# Altium integrated library WS-DITV 2.54 mm small compact THT Dip Switch with top tape.IntLib: 11 symbols
Pins are listed as number, name and electrical type; pins without a type are passive.

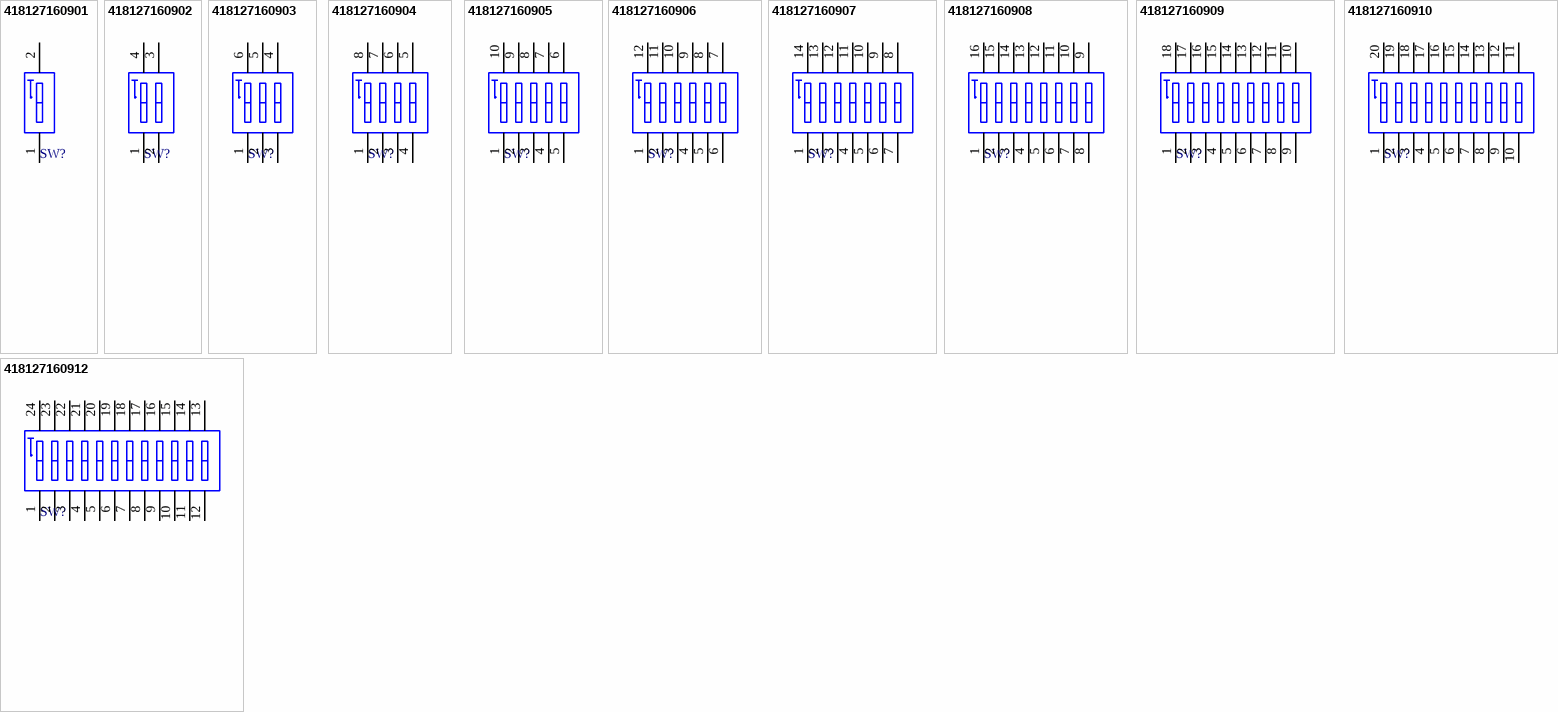
[diagram p0: symbols 418127160901 to 418127160912]

## 418127160901
designator SW?
WS-DITV 2.54 mm small compact THT Dip Switch with top tape; PartNumber: 418127160901; NoPins: 2; PackageReference: 418127160901; ComponentLink1Description: Manufacturer URL; ComponentLink1URL: http://www.we-online.com; ComponentLink2Description: Datasheet; ComponentLink2URL: http://katalog.we-online.de/em/datasheet/4181271609xx.pdf
footprint 418127160901 (01p, 2.54mm Pitch, Horizontal, IC Type, THT, flat Actuator, black, with Tape, Tube)
pins: 1, 2

## 418127160902
designator SW?
WS-DITV 2.54 mm small compact THT Dip Switch with top tape; PartNumber: 418127160902; NoPins: 4; PackageReference: 418127160902; ComponentLink1Description: Manufacturer URL; ComponentLink1URL: http://www.we-online.com; ComponentLink2Description: Datasheet; ComponentLink2URL: http://katalog.we-online.de/em/datasheet/4181271609xx.pdf
footprint 418127160902 (02p, 2.54mm Pitch, Horizontal, IC Type, THT, flat Actuator, black, with Tape, Tube)
pins: 1, 2, 3, 4

## 418127160903
designator SW?
WS-DITV 2.54 mm small compact THT Dip Switch with top tape; PartNumber: 418127160903; NoPins: 6; PackageReference: 418127160903; ComponentLink1Description: Manufacturer URL; ComponentLink1URL: http://www.we-online.com; ComponentLink2Description: Datasheet; ComponentLink2URL: http://katalog.we-online.de/em/datasheet/4181271609xx.pdf
footprint 418127160903 (03p, 2.54mm Pitch, Horizontal, IC Type, THT, flat Actuator, black, with Tape, Tube)
pins: 1, 2, 3, 4, 5, 6

## 418127160904
designator SW?
WS-DITV 2.54 mm small compact THT Dip Switch with top tape; PartNumber: 418127160904; NoPins: 8; PackageReference: 418127160904; ComponentLink1Description: Manufacturer URL; ComponentLink1URL: http://www.we-online.com; ComponentLink2Description: Datasheet; ComponentLink2URL: http://katalog.we-online.de/em/datasheet/4181271609xx.pdf
footprint 418127160904 (04p, 2.54mm Pitch, Horizontal, IC Type, THT, flat Actuator, black, with Tape, Tube)
pins: 1, 2, 3, 4, 5, 6, 7, 8

## 418127160905
designator SW?
WS-DITV 2.54 mm small compact THT Dip Switch with top tape; PartNumber: 418127160905; NoPins: 10; PackageReference: 418127160905; ComponentLink1Description: Manufacturer URL; ComponentLink1URL: http://www.we-online.com; ComponentLink2Description: Datasheet; ComponentLink2URL: http://katalog.we-online.de/em/datasheet/4181271609xx.pdf
footprint 418127160905 (05p, 2.54mm Pitch, Horizontal, IC Type, THT, flat Actuator, black, with Tape, Tube)
pins: 1, 2, 3, 4, 5, 6, 7, 8, 9, 10

## 418127160906
designator SW?
WS-DITV 2.54 mm small compact THT Dip Switch with top tape; PartNumber: 418127160906; NoPins: 12; PackageReference: 418127160906; ComponentLink1Description: Manufacturer URL; ComponentLink1URL: http://www.we-online.com; ComponentLink2Description: Datasheet; ComponentLink2URL: http://katalog.we-online.de/em/datasheet/4181271609xx.pdf
footprint 418127160906 (06p, 2.54mm Pitch, Horizontal, IC Type, THT, flat Actuator, black, with Tape, Tube)
pins: 1, 2, 3, 4, 5, 6, 7, 8, 9, 10, 11, 12

## 418127160907
designator SW?
WS-DITV 2.54 mm small compact THT Dip Switch with top tape; PartNumber: 418127160907; NoPins: 14; PackageReference: 418127160907; ComponentLink1Description: Manufacturer URL; ComponentLink1URL: http://www.we-online.com; ComponentLink2Description: Datasheet; ComponentLink2URL: http://katalog.we-online.de/em/datasheet/4181271609xx.pdf
footprint 418127160907 (07p, 2.54mm Pitch, Horizontal, IC Type, THT, flat Actuator, black, with Tape, Tube)
pins: 1, 2, 3, 4, 5, 6, 7, 8, 9, 10, 11, 12, 13, 14

## 418127160908
designator SW?
WS-DITV 2.54 mm small compact THT Dip Switch with top tape; PartNumber: 418127160908; NoPins: 16; PackageReference: 418127160908; ComponentLink1Description: Manufacturer URL; ComponentLink1URL: http://www.we-online.com; ComponentLink2Description: Datasheet; ComponentLink2URL: http://katalog.we-online.de/em/datasheet/4181271609xx.pdf
footprint 418127160908 (08p, 2.54mm Pitch, Horizontal, IC Type, THT, flat Actuator, black, with Tape, Tube)
pins: 1, 2, 3, 4, 5, 6, 7, 8, 9, 10, 11, 12, 13, 14, 15, 16

## 418127160909
designator SW?
WS-DITV 2.54 mm small compact THT Dip Switch with top tape; PartNumber: 418127160909; NoPins: 18; PackageReference: 418127160909; ComponentLink1Description: Manufacturer URL; ComponentLink1URL: http://www.we-online.com; ComponentLink2Description: Datasheet; ComponentLink2URL: http://katalog.we-online.de/em/datasheet/4181271609xx.pdf
footprint 418127160909 (09p, 2.54mm Pitch, Horizontal, IC Type, THT, flat Actuator, black, with Tape, Tube)
pins: 1, 2, 3, 4, 5, 6, 7, 8, 9, 10, 11, 12, 13, 14, 15, 16, 17, 18

## 418127160910
designator SW?
WS-DITV 2.54 mm small compact THT Dip Switch with top tape; PartNumber: 418127160910; NoPins: 20; PackageReference: 418127160910; ComponentLink1Description: Manufacturer URL; ComponentLink1URL: http://www.we-online.com; ComponentLink2Description: Datasheet; ComponentLink2URL: http://katalog.we-online.de/em/datasheet/4181271609xx.pdf
footprint 418127160910 (10p, 2.54mm Pitch, Horizontal, IC Type, THT, flat Actuator, black, with Tape, Tube)
pins: 1, 2, 3, 4, 5, 6, 7, 8, 9, 10, 11, 12, 13, 14, 15, 16, 17, 18, 19, 20

## 418127160912
designator SW?
WS-DITV 2.54 mm small compact THT Dip Switch with top tape; PartNumber: 418127160912; NoPins: 24; PackageReference: 418127160912; ComponentLink1Description: Manufacturer URL; ComponentLink1URL: http://www.we-online.com; ComponentLink2Description: Datasheet; ComponentLink2URL: http://katalog.we-online.de/em/datasheet/4181271609xx.pdf
footprint 418127160912 (12p, 2.54mm Pitch, Horizontal, IC Type, THT, flat Actuator, black, with Tape, Tube)
pins: 1, 2, 3, 4, 5, 6, 7, 8, 9, 10, 11, 12, 13, 14, 15, 16, 17, 18, 19, 20, 21, 22, 23, 24